# Altium footprint library WE-HCFAT.PcbLib: 5 footprints
Each footprint in its own frame and in the unit in brackets; x right, y up, seen from the top. Pads: shape width x height; smd on the part's side, far side on the other; paste and mask are expansions set on the pad; w line width, h text height; cw(c..) or ccw(c..) is an arc to the next point about the centre after c.
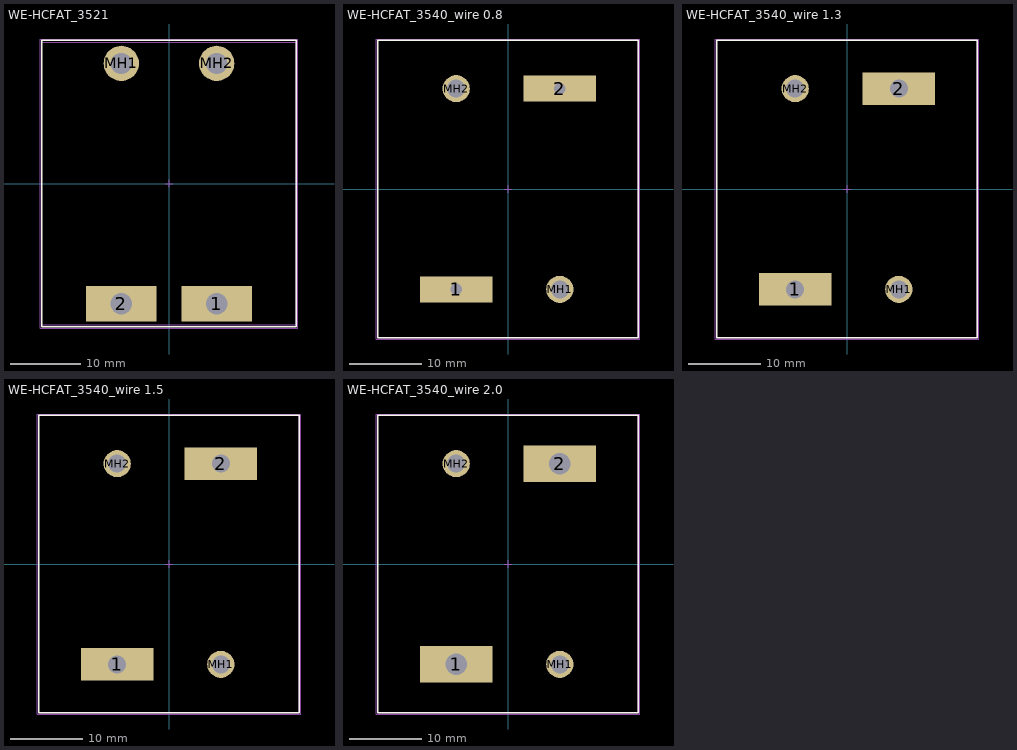
[diagram p0: the footprints below, top view; thin cyan lines are the x and y axes]

## WE-HCFAT_3521 [mm] "THT High Current Inductor, size 3521, body 36.00 x 40.00 mm"
height 24
pads (4):
  rect 10x5 hole 3 square: 1(6.75,-17) 2(-6.75,-17)
  round 5 hole 3: MH1(-6.75,17) MH2(6.75,17)
Top Overlay:
  lines w0.2: -18,-20.25 18,-20.25 18,20.25 -18,20.25 -18,-20.25
Top Assembly:
  lines w0.1: -18,-20 18,-20 18,20 -18,20 -18,-20
Top Designator:
  text ".Designator" at -3.647,-0.357 h1
Top Courtyard:
  lines w0.05: -18.2,-20.45 18.2,-20.45 18.2,20.45 -18.2,20.45 -18.2,-20.45
Top Component Center:
  lines w0.1: -0.5,0 0.5,0 ; 0,-0.5 0,0.5
3D body "3521_7843763521.stp": height 24.06, standoff -3.96, extent -18,-20 18,20

## WE-HCFAT_3540_wire 0.8 [mm] "THT High Current Inductor, size 3540, body 36.00 x 41.00 mm"
height 35
pads (4):
  rect 10x3.6 hole 1.6 square: 1(-7.15,-13.85) 2(7.15,13.85)
  round 3.75 hole 2.5: MH1(7.15,-13.85) MH2(-7.15,13.85)
Top Overlay:
  lines w0.2: -18,-20.5 -18,20.5 18,20.5 18,-20.5 -18,-20.5
Top Assembly:
  lines w0.1: -18,-20.5 18,-20.5 18,20.5 -18,20.5 -18,-20.5
Top Designator:
  text ".Designator" at -3.647,-0.357 h1
Top Courtyard:
  lines w0.05: -18.2,-20.7 18.2,-20.7 18.2,20.7 -18.2,20.7 -18.2,-20.7
Top Component Center:
  lines w0.1: -0.5,0 0.5,0 ; 0,-0.5 0,0.5
3D body "3540_7843763540xxx_0,8 wire.stp": height 33.45, standoff -3.45, extent -17.6,-20.26 17.6,20.25

## WE-HCFAT_3540_wire 1.3 [mm] "THT High Current Inductor, size 3540, body 36.00 x 41.00 mm"
height 35
pads (4):
  rect 10x4.5 hole 2.5 square: 1(-7.15,-13.85) 2(7.15,13.85)
  round 3.75 hole 2.5: MH1(7.15,-13.85) MH2(-7.15,13.85)
Top Overlay:
  lines w0.2: -18,-20.5 -18,20.5 18,20.5 18,-20.5 -18,-20.5
Top Assembly:
  lines w0.1: -18,-20.5 18,-20.5 18,20.5 -18,20.5 -18,-20.5
Top Designator:
  text ".Designator" at -3.647,-0.357 h1
Top Courtyard:
  lines w0.05: -18.2,-20.7 18.2,-20.7 18.2,20.7 -18.2,20.7 -18.2,-20.7
Top Component Center:
  lines w0.1: -0.5,0 0.5,0 ; 0,-0.5 0,0.5
3D body "3540_7843763540xxx_1,3 wire.stp": height 33.45, standoff -3.45, extent -17.6,-20.26 17.6,20.25

## WE-HCFAT_3540_wire 1.5 [mm] "THT High Current Inductor, size 3540, body 36.00 x 41.00 mm"
height 35
pads (4):
  rect 10x4.5 hole 2.5 square: 1(-7.15,-13.85) 2(7.15,13.85)
  round 3.75 hole 2.5: MH1(7.15,-13.85) MH2(-7.15,13.85)
Top Overlay:
  lines w0.2: -18,-20.5 -18,20.5 18,20.5 18,-20.5 -18,-20.5
Top Assembly:
  lines w0.1: -18,-20.5 18,-20.5 18,20.5 -18,20.5 -18,-20.5
Top Designator:
  text ".Designator" at -3.647,-0.357 h1
Top Courtyard:
  lines w0.05: -18.2,-20.7 18.2,-20.7 18.2,20.7 -18.2,20.7 -18.2,-20.7
Top Component Center:
  lines w0.1: -0.5,0 0.5,0 ; 0,-0.5 0,0.5
3D body "3540_7843763540xxx_1,5 wire.stp": height 33.42, standoff -3.48, extent -17.6,-20.26 17.6,20.25

## WE-HCFAT_3540_wire 2.0 [mm] "THT High Current Inductor, size 3540, body 36.00 x 41.00 mm"
height 35
pads (4):
  rect 10x5 hole 3 square: 1(-7.15,-13.85) 2(7.15,13.85)
  round 3.75 hole 2.5: MH1(7.15,-13.85) MH2(-7.15,13.85)
Top Overlay:
  lines w0.2: -18,-20.5 -18,20.5 18,20.5 18,-20.5 -18,-20.5
Top Assembly:
  lines w0.1: -18,-20.5 18,-20.5 18,20.5 -18,20.5 -18,-20.5
Top Designator:
  text ".Designator" at -3.647,-0.357 h1
Top Courtyard:
  lines w0.05: -18.2,-20.7 18.2,-20.7 18.2,20.7 -18.2,20.7 -18.2,-20.7
Top Component Center:
  lines w0.1: -0.5,0 0.5,0 ; 0,-0.5 0,0.5
3D body "3540_7843763540xxx_2,0 wire.stp": height 33.45, standoff -3.45, extent -17.6,-20.26 17.6,20.25